# Altium integrated library Linear Technology Power Management uModule Regulators.IntLib: 166 symbols (part 54 of 67)
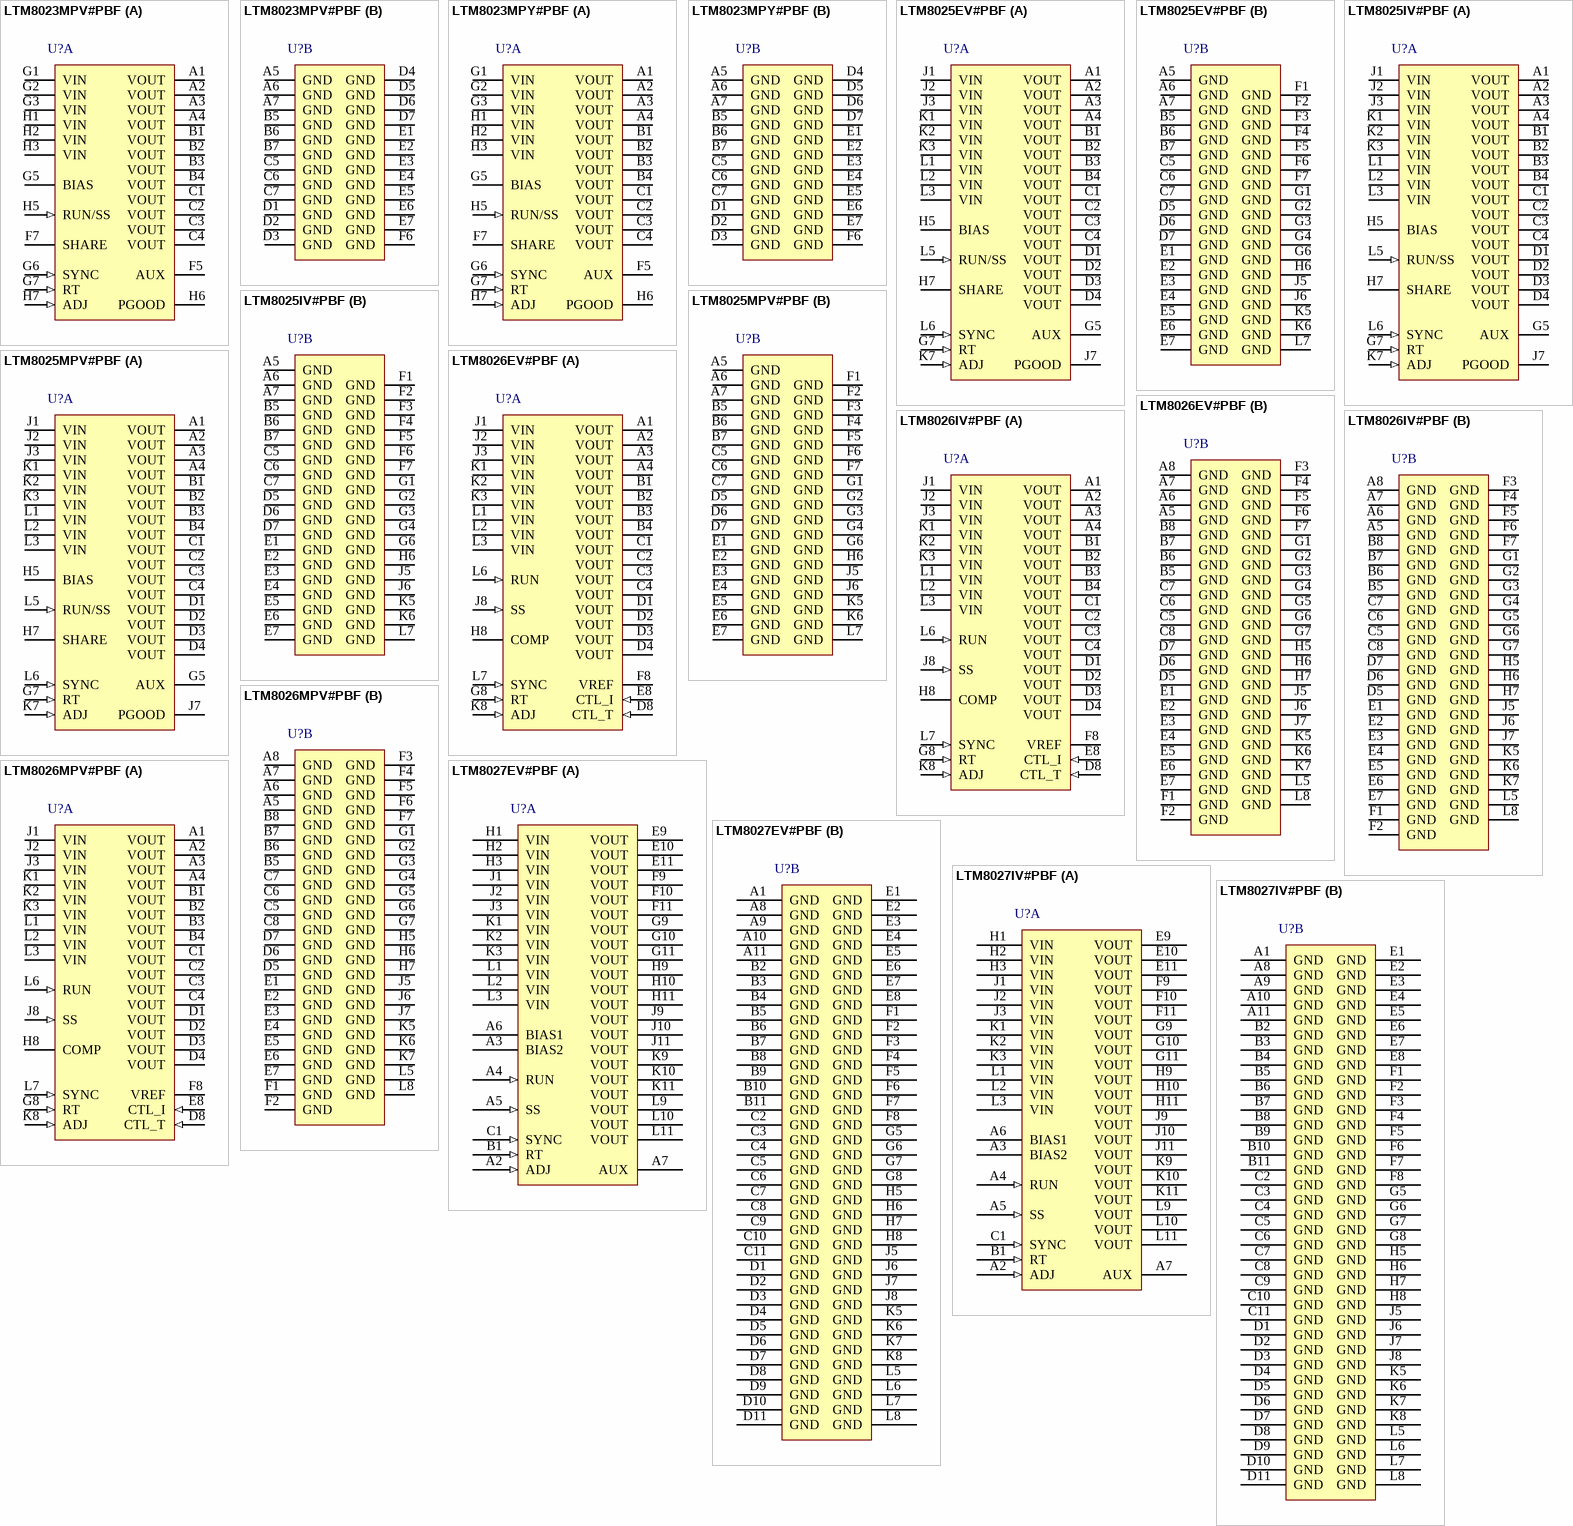
[diagram p80: symbols LTM8023MPV#PBF to LTM8027IV#PBF]

## LTM8027EV#PBF
designator U?
60 V, 4 A DC/DC uModule Regulator, 113-pin LGA, -40 to 125 degC, Pb-Free, Tray; Manufacturer: Linear Technology; PartNumber: LTM8027EV#PBF; Extended Temp: E, I, MP; Frequency Adjust Range: 100kHz - 500kHz; Ishutdown(uA): 9; Isupply(mA): 39; Number of Outputs: 1; Output Current(A): 4; Switch Current(A): 6; Synchronous: yes; Topology: Buck; Vin Max(V): 60; Vin Min(V): 4.5; Vout Max(V): 24; Vout Min(V): 2.5; Vswitch Max(V): 65; DatasheetVersion: Rev. B; PackageVersion: Rev. A, 02/2013; PackageReference: LGA-113; PackageDescription: 113-Pin LGA, Body 15 x 15 mm, Pitch 1.27 mm; Supplier 1: Digi-Key; Supplier Part Number 1: LTM8027EV#PBF-ND; Supplier 2: Farnell; Supplier Part Number 2: 1799829; Supplier 3: Newark; Supplier Part Number 3: 52R9868; Frequency Sync Range: 100kHz - 500kHz; Packing: Tray; RoHS: TRUE; Mounting Technology: Surface Mount; Code_JEDEC: MO-222; ComponentLink1Description: Manufacturer URL; ComponentLink1URL: http://www.linear.com/; ComponentLink2Description: Datasheet; ComponentLink2URL: http://cds.linear.com/docs/en/datasheet/8027fb.pdf; ComponentLink3Description: Package Specification; ComponentLink3URL: http://cds.linear.com/docs/en/packaging/05081756_A_lga113.pdf
footprint LT-LGA-113-15000X15000X4320_V (LGA, 113-Leads, Body 15x15mm, Pitch 1.27mm)
part A pins: A2 ADJ (in) "The LTM8027 regulates its ADJ pin to 1.23V. Connect the adjust resistor from this pin to ground.", A3 BIAS2 (power) "Internal Biasing Power. Connect to AUX (if 24V or less) or a voltage source above 3V. Do not leave BIAS2 floating", A4 RUN (in) "Tie the RUN pin to ground to shut down the LTM8027. Tie to 1.4V or more for normal operation. The RUN pin is internally clamped to 5V, so when it is pulled up, be sure to use a pull-up resistor that limits the current in to (See Datasheet)", A5 SS (in) "The soft-start pin is used to program the supply soft-start function. The pin should be left unconnected when not using the soft-start function.", A6 BIAS1 (power) "The BIAS1 pin connects to the internal power bus. Connect to a power source greater than 8.5V. If the output is greater than 8.5V, connect it to this pin. If the output voltage is less, connect this to a voltage source (See Datasheet)", A7 AUX (power) "Low Current Voltage Source for BIAS1 and BIAS2. In many designs, the BIAS pin is connected to VOUT by way of the AUX pin. The AUX pin is internally connected to VOUT and is placed near the BIAS pins to ease printed circuit (See Datasheet)", B1 RT (in) "The RT pin is used to program the switching frequency of the LTM8027 by connecting a resistor from this pin to ground. The Applications Information section of the data sheet includes a table to determine the resistance value (See Datasheet)", C1 SYNC (in) "The SYNC pin provides an external clock input for synchronization of the internal oscillator. The RT resistor should be set such that the internal oscillator frequency is 10% to 25% below the external clock frequency. This (See Datasheet)", E9 VOUT (power) "Power Output Pins. Apply the output filter capacitor and the output load between these and the GND pins.", E10 VOUT (power) "Power Output Pins. Apply the output filter capacitor and the output load between these and the GND pins.", E11 VOUT (power) "Power Output Pins. Apply the output filter capacitor and the output load between these and the GND pins.", F9 VOUT (power) "Power Output Pins. Apply the output filter capacitor and the output load between these and the GND pins.", F10 VOUT (power) "Power Output Pins. Apply the output filter capacitor and the output load between these and the GND pins.", F11 VOUT (power) "Power Output Pins. Apply the output filter capacitor and the output load between these and the GND pins.", G9 VOUT (power) "Power Output Pins. Apply the output filter capacitor and the output load between these and the GND pins.", G10 VOUT (power) "Power Output Pins. Apply the output filter capacitor and the output load between these and the GND pins.", G11 VOUT (power) "Power Output Pins. Apply the output filter capacitor and the output load between these and the GND pins.", H1 VIN (power) "The VIN pins supply current to the LTM8027’s internal regulator and to the internal power switch. These pins must be locally bypassed with an external, low ESR capacitor (see Table 2).", H2 VIN (power) "The VIN pins supply current to the LTM8027’s internal regulator and to the internal power switch. These pins must be locally bypassed with an external, low ESR capacitor (see Table 2).", H3 VIN (power) "The VIN pins supply current to the LTM8027’s internal regulator and to the internal power switch. These pins must be locally bypassed with an external, low ESR capacitor (see Table 2).", H9 VOUT (power) "Power Output Pins. Apply the output filter capacitor and the output load between these and the GND pins.", H10 VOUT (power) "Power Output Pins. Apply the output filter capacitor and the output load between these and the GND pins.", H11 VOUT (power) "Power Output Pins. Apply the output filter capacitor and the output load between these and the GND pins.", J1 VIN (power) "The VIN pins supply current to the LTM8027’s internal regulator and to the internal power switch. These pins must be locally bypassed with an external, low ESR capacitor (see Table 2).", J2 VIN (power) "The VIN pins supply current to the LTM8027’s internal regulator and to the internal power switch. These pins must be locally bypassed with an external, low ESR capacitor (see Table 2).", J3 VIN (power) "The VIN pins supply current to the LTM8027’s internal regulator and to the internal power switch. These pins must be locally bypassed with an external, low ESR capacitor (see Table 2).", J9 VOUT (power) "Power Output Pins. Apply the output filter capacitor and the output load between these and the GND pins.", J10 VOUT (power) "Power Output Pins. Apply the output filter capacitor and the output load between these and the GND pins.", J11 VOUT (power) "Power Output Pins. Apply the output filter capacitor and the output load between these and the GND pins.", K1 VIN (power) "The VIN pins supply current to the LTM8027’s internal regulator and to the internal power switch. These pins must be locally bypassed with an external, low ESR capacitor (see Table 2).", K2 VIN (power) "The VIN pins supply current to the LTM8027’s internal regulator and to the internal power switch. These pins must be locally bypassed with an external, low ESR capacitor (see Table 2).", K3 VIN (power) "The VIN pins supply current to the LTM8027’s internal regulator and to the internal power switch. These pins must be locally bypassed with an external, low ESR capacitor (see Table 2).", K9 VOUT (power) "Power Output Pins. Apply the output filter capacitor and the output load between these and the GND pins.", K10 VOUT (power) "Power Output Pins. Apply the output filter capacitor and the output load between these and the GND pins.", K11 VOUT (power) "Power Output Pins. Apply the output filter capacitor and the output load between these and the GND pins.", L1 VIN (power) "The VIN pins supply current to the LTM8027’s internal regulator and to the internal power switch. These pins must be locally bypassed with an external, low ESR capacitor (see Table 2).", L2 VIN (power) "The VIN pins supply current to the LTM8027’s internal regulator and to the internal power switch. These pins must be locally bypassed with an external, low ESR capacitor (see Table 2).", L3 VIN (power) "The VIN pins supply current to the LTM8027’s internal regulator and to the internal power switch. These pins must be locally bypassed with an external, low ESR capacitor (see Table 2).", L9 VOUT (power) "Power Output Pins. Apply the output filter capacitor and the output load between these and the GND pins.", L10 VOUT (power) "Power Output Pins. Apply the output filter capacitor and the output load between these and the GND pins.", L11 VOUT (power) "Power Output Pins. Apply the output filter capacitor and the output load between these and the GND pins."
part B pins: A1 GND (power) "Tie these GND pins to a local ground plane below the LTM8027 and the circuit components.", A8 GND (power) "Tie these GND pins to a local ground plane below the LTM8027 and the circuit components.", A9 GND (power) "Tie these GND pins to a local ground plane below the LTM8027 and the circuit components.", A10 GND (power) "Tie these GND pins to a local ground plane below the LTM8027 and the circuit components.", A11 GND (power) "Tie these GND pins to a local ground plane below the LTM8027 and the circuit components.", B2 GND (power) "Tie these GND pins to a local ground plane below the LTM8027 and the circuit components.", B3 GND (power) "Tie these GND pins to a local ground plane below the LTM8027 and the circuit components.", B4 GND (power) "Tie these GND pins to a local ground plane below the LTM8027 and the circuit components.", B5 GND (power) "Tie these GND pins to a local ground plane below the LTM8027 and the circuit components.", B6 GND (power) "Tie these GND pins to a local ground plane below the LTM8027 and the circuit components.", B7 GND (power) "Tie these GND pins to a local ground plane below the LTM8027 and the circuit components.", B8 GND (power) "Tie these GND pins to a local ground plane below the LTM8027 and the circuit components.", B9 GND (power) "Tie these GND pins to a local ground plane below the LTM8027 and the circuit components.", B10 GND (power) "Tie these GND pins to a local ground plane below the LTM8027 and the circuit components.", B11 GND (power) "Tie these GND pins to a local ground plane below the LTM8027 and the circuit components.", C2 GND (power) "Tie these GND pins to a local ground plane below the LTM8027 and the circuit components.", C3 GND (power) "Tie these GND pins to a local ground plane below the LTM8027 and the circuit components.", C4 GND (power) "Tie these GND pins to a local ground plane below the LTM8027 and the circuit components.", C5 GND (power) "Tie these GND pins to a local ground plane below the LTM8027 and the circuit components.", C6 GND (power) "Tie these GND pins to a local ground plane below the LTM8027 and the circuit components.", C7 GND (power) "Tie these GND pins to a local ground plane below the LTM8027 and the circuit components.", C8 GND (power) "Tie these GND pins to a local ground plane below the LTM8027 and the circuit components.", C9 GND (power) "Tie these GND pins to a local ground plane below the LTM8027 and the circuit components.", C10 GND (power) "Tie these GND pins to a local ground plane below the LTM8027 and the circuit components.", C11 GND (power) "Tie these GND pins to a local ground plane below the LTM8027 and the circuit components.", D1 GND (power) "Tie these GND pins to a local ground plane below the LTM8027 and the circuit components.", D2 GND (power) "Tie these GND pins to a local ground plane below the LTM8027 and the circuit components.", D3 GND (power) "Tie these GND pins to a local ground plane below the LTM8027 and the circuit components.", D4 GND (power) "Tie these GND pins to a local ground plane below the LTM8027 and the circuit components.", D5 GND (power) "Tie these GND pins to a local ground plane below the LTM8027 and the circuit components.", D6 GND (power) "Tie these GND pins to a local ground plane below the LTM8027 and the circuit components.", D7 GND (power) "Tie these GND pins to a local ground plane below the LTM8027 and the circuit components.", D8 GND (power) "Tie these GND pins to a local ground plane below the LTM8027 and the circuit components.", D9 GND (power) "Tie these GND pins to a local ground plane below the LTM8027 and the circuit components.", D10 GND (power) "Tie these GND pins to a local ground plane below the LTM8027 and the circuit components.", D11 GND (power) "Tie these GND pins to a local ground plane below the LTM8027 and the circuit components.", E1 GND (power) "Tie these GND pins to a local ground plane below the LTM8027 and the circuit components.", E2 GND (power) "Tie these GND pins to a local ground plane below the LTM8027 and the circuit components.", E3 GND (power) "Tie these GND pins to a local ground plane below the LTM8027 and the circuit components.", E4 GND (power) "Tie these GND pins to a local ground plane below the LTM8027 and the circuit components.", E5 GND (power) "Tie these GND pins to a local ground plane below the LTM8027 and the circuit components.", E6 GND (power) "Tie these GND pins to a local ground plane below the LTM8027 and the circuit components.", E7 GND (power) "Tie these GND pins to a local ground plane below the LTM8027 and the circuit components.", E8 GND (power) "Tie these GND pins to a local ground plane below the LTM8027 and the circuit components.", F1 GND (power) "Tie these GND pins to a local ground plane below the LTM8027 and the circuit components.", F2 GND (power) "Tie these GND pins to a local ground plane below the LTM8027 and the circuit components.", F3 GND (power) "Tie these GND pins to a local ground plane below the LTM8027 and the circuit components.", F4 GND (power) "Tie these GND pins to a local ground plane below the LTM8027 and the circuit components.", F5 GND (power) "Tie these GND pins to a local ground plane below the LTM8027 and the circuit components.", F6 GND (power) "Tie these GND pins to a local ground plane below the LTM8027 and the circuit components.", F7 GND (power) "Tie these GND pins to a local ground plane below the LTM8027 and the circuit components.", F8 GND (power) "Tie these GND pins to a local ground plane below the LTM8027 and the circuit components.", G5 GND (power) "Tie these GND pins to a local ground plane below the LTM8027 and the circuit components.", G6 GND (power) "Tie these GND pins to a local ground plane below the LTM8027 and the circuit components.", G7 GND (power) "Tie these GND pins to a local ground plane below the LTM8027 and the circuit components.", G8 GND (power) "Tie these GND pins to a local ground plane below the LTM8027 and the circuit components.", H5 GND (power) "Tie these GND pins to a local ground plane below the LTM8027 and the circuit components.", H6 GND (power) "Tie these GND pins to a local ground plane below the LTM8027 and the circuit components.", H7 GND (power) "Tie these GND pins to a local ground plane below the LTM8027 and the circuit components.", H8 GND (power) "Tie these GND pins to a local ground plane below the LTM8027 and the circuit components.", J5 GND (power) "Tie these GND pins to a local ground plane below the LTM8027 and the circuit components.", J6 GND (power) "Tie these GND pins to a local ground plane below the LTM8027 and the circuit components.", J7 GND (power) "Tie these GND pins to a local ground plane below the LTM8027 and the circuit components.", J8 GND (power) "Tie these GND pins to a local ground plane below the LTM8027 and the circuit components.", K5 GND (power) "Tie these GND pins to a local ground plane below the LTM8027 and the circuit components.", K6 GND (power) "Tie these GND pins to a local ground plane below the LTM8027 and the circuit components.", K7 GND (power) "Tie these GND pins to a local ground plane below the LTM8027 and the circuit components.", K8 GND (power) "Tie these GND pins to a local ground plane below the LTM8027 and the circuit components.", L5 GND (power) "Tie these GND pins to a local ground plane below the LTM8027 and the circuit components.", L6 GND (power) "Tie these GND pins to a local ground plane below the LTM8027 and the circuit components.", L7 GND (power) "Tie these GND pins to a local ground plane below the LTM8027 and the circuit components.", L8 GND (power) "Tie these GND pins to a local ground plane below the LTM8027 and the circuit components."

## LTM8027IV#PBF
designator U?
60 V, 4 A DC/DC uModule Regulator, 113-pin LGA, -40 to 125 degC, Pb-Free, Tray; Manufacturer: Linear Technology; PartNumber: LTM8027IV#PBF; Extended Temp: E, I, MP; Frequency Adjust Range: 100kHz - 500kHz; Ishutdown(uA): 9; Isupply(mA): 39; Number of Outputs: 1; Output Current(A): 4; Switch Current(A): 6; Synchronous: yes; Topology: Buck; Vin Max(V): 60; Vin Min(V): 4.5; Vout Max(V): 24; Vout Min(V): 2.5; Vswitch Max(V): 65; DatasheetVersion: Rev. B; PackageVersion: Rev. A, 02/2013; PackageReference: LGA-113; PackageDescription: 113-Pin LGA, Body 15 x 15 mm, Pitch 1.27 mm; Supplier 1: Digi-Key; Supplier Part Number 1: LTM8027IV#PBF-ND; Supplier 2: Farnell; Supplier Part Number 2: 1799830; Supplier 3: Newark; Supplier Part Number 3: 52R9869; Frequency Sync Range: 100kHz - 500kHz; Packing: Tray; RoHS: TRUE; Mounting Technology: Surface Mount; Code_JEDEC: MO-222; ComponentLink1Description: Manufacturer URL; ComponentLink1URL: http://www.linear.com/; ComponentLink2Description: Datasheet; ComponentLink2URL: http://cds.linear.com/docs/en/datasheet/8027fb.pdf; ComponentLink3Description: Package Specification; ComponentLink3URL: http://cds.linear.com/docs/en/packaging/05081756_A_lga113.pdf
footprint LT-LGA-113-15000X15000X4320_V (LGA, 113-Leads, Body 15x15mm, Pitch 1.27mm)
part A pins: A2 ADJ (in) "The LTM8027 regulates its ADJ pin to 1.23V. Connect the adjust resistor from this pin to ground.", A3 BIAS2 (power) "Internal Biasing Power. Connect to AUX (if 24V or less) or a voltage source above 3V. Do not leave BIAS2 floating", A4 RUN (in) "Tie the RUN pin to ground to shut down the LTM8027. Tie to 1.4V or more for normal operation. The RUN pin is internally clamped to 5V, so when it is pulled up, be sure to use a pull-up resistor that limits the current in to (See Datasheet)", A5 SS (in) "The soft-start pin is used to program the supply soft-start function. The pin should be left unconnected when not using the soft-start function.", A6 BIAS1 (power) "The BIAS1 pin connects to the internal power bus. Connect to a power source greater than 8.5V. If the output is greater than 8.5V, connect it to this pin. If the output voltage is less, connect this to a voltage source (See Datasheet)", A7 AUX (power) "Low Current Voltage Source for BIAS1 and BIAS2. In many designs, the BIAS pin is connected to VOUT by way of the AUX pin. The AUX pin is internally connected to VOUT and is placed near the BIAS pins to ease printed circuit (See Datasheet)", B1 RT (in) "The RT pin is used to program the switching frequency of the LTM8027 by connecting a resistor from this pin to ground. The Applications Information section of the data sheet includes a table to determine the resistance value (See Datasheet)", C1 SYNC (in) "The SYNC pin provides an external clock input for synchronization of the internal oscillator. The RT resistor should be set such that the internal oscillator frequency is 10% to 25% below the external clock frequency. This (See Datasheet)", E9 VOUT (power) "Power Output Pins. Apply the output filter capacitor and the output load between these and the GND pins.", E10 VOUT (power) "Power Output Pins. Apply the output filter capacitor and the output load between these and the GND pins.", E11 VOUT (power) "Power Output Pins. Apply the output filter capacitor and the output load between these and the GND pins.", F9 VOUT (power) "Power Output Pins. Apply the output filter capacitor and the output load between these and the GND pins.", F10 VOUT (power) "Power Output Pins. Apply the output filter capacitor and the output load between these and the GND pins.", F11 VOUT (power) "Power Output Pins. Apply the output filter capacitor and the output load between these and the GND pins.", G9 VOUT (power) "Power Output Pins. Apply the output filter capacitor and the output load between these and the GND pins.", G10 VOUT (power) "Power Output Pins. Apply the output filter capacitor and the output load between these and the GND pins.", G11 VOUT (power) "Power Output Pins. Apply the output filter capacitor and the output load between these and the GND pins.", H1 VIN (power) "The VIN pins supply current to the LTM8027’s internal regulator and to the internal power switch. These pins must be locally bypassed with an external, low ESR capacitor (see Table 2).", H2 VIN (power) "The VIN pins supply current to the LTM8027’s internal regulator and to the internal power switch. These pins must be locally bypassed with an external, low ESR capacitor (see Table 2).", H3 VIN (power) "The VIN pins supply current to the LTM8027’s internal regulator and to the internal power switch. These pins must be locally bypassed with an external, low ESR capacitor (see Table 2).", H9 VOUT (power) "Power Output Pins. Apply the output filter capacitor and the output load between these and the GND pins.", H10 VOUT (power) "Power Output Pins. Apply the output filter capacitor and the output load between these and the GND pins.", H11 VOUT (power) "Power Output Pins. Apply the output filter capacitor and the output load between these and the GND pins.", J1 VIN (power) "The VIN pins supply current to the LTM8027’s internal regulator and to the internal power switch. These pins must be locally bypassed with an external, low ESR capacitor (see Table 2).", J2 VIN (power) "The VIN pins supply current to the LTM8027’s internal regulator and to the internal power switch. These pins must be locally bypassed with an external, low ESR capacitor (see Table 2).", J3 VIN (power) "The VIN pins supply current to the LTM8027’s internal regulator and to the internal power switch. These pins must be locally bypassed with an external, low ESR capacitor (see Table 2).", J9 VOUT (power) "Power Output Pins. Apply the output filter capacitor and the output load between these and the GND pins.", J10 VOUT (power) "Power Output Pins. Apply the output filter capacitor and the output load between these and the GND pins.", J11 VOUT (power) "Power Output Pins. Apply the output filter capacitor and the output load between these and the GND pins.", K1 VIN (power) "The VIN pins supply current to the LTM8027’s internal regulator and to the internal power switch. These pins must be locally bypassed with an external, low ESR capacitor (see Table 2).", K2 VIN (power) "The VIN pins supply current to the LTM8027’s internal regulator and to the internal power switch. These pins must be locally bypassed with an external, low ESR capacitor (see Table 2).", K3 VIN (power) "The VIN pins supply current to the LTM8027’s internal regulator and to the internal power switch. These pins must be locally bypassed with an external, low ESR capacitor (see Table 2).", K9 VOUT (power) "Power Output Pins. Apply the output filter capacitor and the output load between these and the GND pins.", K10 VOUT (power) "Power Output Pins. Apply the output filter capacitor and the output load between these and the GND pins.", K11 VOUT (power) "Power Output Pins. Apply the output filter capacitor and the output load between these and the GND pins.", L1 VIN (power) "The VIN pins supply current to the LTM8027’s internal regulator and to the internal power switch. These pins must be locally bypassed with an external, low ESR capacitor (see Table 2).", L2 VIN (power) "The VIN pins supply current to the LTM8027’s internal regulator and to the internal power switch. These pins must be locally bypassed with an external, low ESR capacitor (see Table 2).", L3 VIN (power) "The VIN pins supply current to the LTM8027’s internal regulator and to the internal power switch. These pins must be locally bypassed with an external, low ESR capacitor (see Table 2).", L9 VOUT (power) "Power Output Pins. Apply the output filter capacitor and the output load between these and the GND pins.", L10 VOUT (power) "Power Output Pins. Apply the output filter capacitor and the output load between these and the GND pins.", L11 VOUT (power) "Power Output Pins. Apply the output filter capacitor and the output load between these and the GND pins."
part B pins: A1 GND (power) "Tie these GND pins to a local ground plane below the LTM8027 and the circuit components.", A8 GND (power) "Tie these GND pins to a local ground plane below the LTM8027 and the circuit components.", A9 GND (power) "Tie these GND pins to a local ground plane below the LTM8027 and the circuit components.", A10 GND (power) "Tie these GND pins to a local ground plane below the LTM8027 and the circuit components.", A11 GND (power) "Tie these GND pins to a local ground plane below the LTM8027 and the circuit components.", B2 GND (power) "Tie these GND pins to a local ground plane below the LTM8027 and the circuit components.", B3 GND (power) "Tie these GND pins to a local ground plane below the LTM8027 and the circuit components.", B4 GND (power) "Tie these GND pins to a local ground plane below the LTM8027 and the circuit components.", B5 GND (power) "Tie these GND pins to a local ground plane below the LTM8027 and the circuit components.", B6 GND (power) "Tie these GND pins to a local ground plane below the LTM8027 and the circuit components.", B7 GND (power) "Tie these GND pins to a local ground plane below the LTM8027 and the circuit components.", B8 GND (power) "Tie these GND pins to a local ground plane below the LTM8027 and the circuit components.", B9 GND (power) "Tie these GND pins to a local ground plane below the LTM8027 and the circuit components.", B10 GND (power) "Tie these GND pins to a local ground plane below the LTM8027 and the circuit components.", B11 GND (power) "Tie these GND pins to a local ground plane below the LTM8027 and the circuit components.", C2 GND (power) "Tie these GND pins to a local ground plane below the LTM8027 and the circuit components.", C3 GND (power) "Tie these GND pins to a local ground plane below the LTM8027 and the circuit components.", C4 GND (power) "Tie these GND pins to a local ground plane below the LTM8027 and the circuit components.", C5 GND (power) "Tie these GND pins to a local ground plane below the LTM8027 and the circuit components.", C6 GND (power) "Tie these GND pins to a local ground plane below the LTM8027 and the circuit components.", C7 GND (power) "Tie these GND pins to a local ground plane below the LTM8027 and the circuit components.", C8 GND (power) "Tie these GND pins to a local ground plane below the LTM8027 and the circuit components.", C9 GND (power) "Tie these GND pins to a local ground plane below the LTM8027 and the circuit components.", C10 GND (power) "Tie these GND pins to a local ground plane below the LTM8027 and the circuit components.", C11 GND (power) "Tie these GND pins to a local ground plane below the LTM8027 and the circuit components.", D1 GND (power) "Tie these GND pins to a local ground plane below the LTM8027 and the circuit components.", D2 GND (power) "Tie these GND pins to a local ground plane below the LTM8027 and the circuit components.", D3 GND (power) "Tie these GND pins to a local ground plane below the LTM8027 and the circuit components.", D4 GND (power) "Tie these GND pins to a local ground plane below the LTM8027 and the circuit components.", D5 GND (power) "Tie these GND pins to a local ground plane below the LTM8027 and the circuit components.", D6 GND (power) "Tie these GND pins to a local ground plane below the LTM8027 and the circuit components.", D7 GND (power) "Tie these GND pins to a local ground plane below the LTM8027 and the circuit components.", D8 GND (power) "Tie these GND pins to a local ground plane below the LTM8027 and the circuit components.", D9 GND (power) "Tie these GND pins to a local ground plane below the LTM8027 and the circuit components.", D10 GND (power) "Tie these GND pins to a local ground plane below the LTM8027 and the circuit components.", D11 GND (power) "Tie these GND pins to a local ground plane below the LTM8027 and the circuit components.", E1 GND (power) "Tie these GND pins to a local ground plane below the LTM8027 and the circuit components.", E2 GND (power) "Tie these GND pins to a local ground plane below the LTM8027 and the circuit components.", E3 GND (power) "Tie these GND pins to a local ground plane below the LTM8027 and the circuit components.", E4 GND (power) "Tie these GND pins to a local ground plane below the LTM8027 and the circuit components.", E5 GND (power) "Tie these GND pins to a local ground plane below the LTM8027 and the circuit components.", E6 GND (power) "Tie these GND pins to a local ground plane below the LTM8027 and the circuit components.", E7 GND (power) "Tie these GND pins to a local ground plane below the LTM8027 and the circuit components.", E8 GND (power) "Tie these GND pins to a local ground plane below the LTM8027 and the circuit components.", F1 GND (power) "Tie these GND pins to a local ground plane below the LTM8027 and the circuit components.", F2 GND (power) "Tie these GND pins to a local ground plane below the LTM8027 and the circuit components.", F3 GND (power) "Tie these GND pins to a local ground plane below the LTM8027 and the circuit components.", F4 GND (power) "Tie these GND pins to a local ground plane below the LTM8027 and the circuit components.", F5 GND (power) "Tie these GND pins to a local ground plane below the LTM8027 and the circuit components.", F6 GND (power) "Tie these GND pins to a local ground plane below the LTM8027 and the circuit components.", F7 GND (power) "Tie these GND pins to a local ground plane below the LTM8027 and the circuit components.", F8 GND (power) "Tie these GND pins to a local ground plane below the LTM8027 and the circuit components.", G5 GND (power) "Tie these GND pins to a local ground plane below the LTM8027 and the circuit components.", G6 GND (power) "Tie these GND pins to a local ground plane below the LTM8027 and the circuit components.", G7 GND (power) "Tie these GND pins to a local ground plane below the LTM8027 and the circuit components.", G8 GND (power) "Tie these GND pins to a local ground plane below the LTM8027 and the circuit components.", H5 GND (power) "Tie these GND pins to a local ground plane below the LTM8027 and the circuit components.", H6 GND (power) "Tie these GND pins to a local ground plane below the LTM8027 and the circuit components.", H7 GND (power) "Tie these GND pins to a local ground plane below the LTM8027 and the circuit components.", H8 GND (power) "Tie these GND pins to a local ground plane below the LTM8027 and the circuit components.", J5 GND (power) "Tie these GND pins to a local ground plane below the LTM8027 and the circuit components.", J6 GND (power) "Tie these GND pins to a local ground plane below the LTM8027 and the circuit components.", J7 GND (power) "Tie these GND pins to a local ground plane below the LTM8027 and the circuit components.", J8 GND (power) "Tie these GND pins to a local ground plane below the LTM8027 and the circuit components.", K5 GND (power) "Tie these GND pins to a local ground plane below the LTM8027 and the circuit components.", K6 GND (power) "Tie these GND pins to a local ground plane below the LTM8027 and the circuit components.", K7 GND (power) "Tie these GND pins to a local ground plane below the LTM8027 and the circuit components.", K8 GND (power) "Tie these GND pins to a local ground plane below the LTM8027 and the circuit components.", L5 GND (power) "Tie these GND pins to a local ground plane below the LTM8027 and the circuit components.", L6 GND (power) "Tie these GND pins to a local ground plane below the LTM8027 and the circuit components.", L7 GND (power) "Tie these GND pins to a local ground plane below the LTM8027 and the circuit components.", L8 GND (power) "Tie these GND pins to a local ground plane below the LTM8027 and the circuit components."

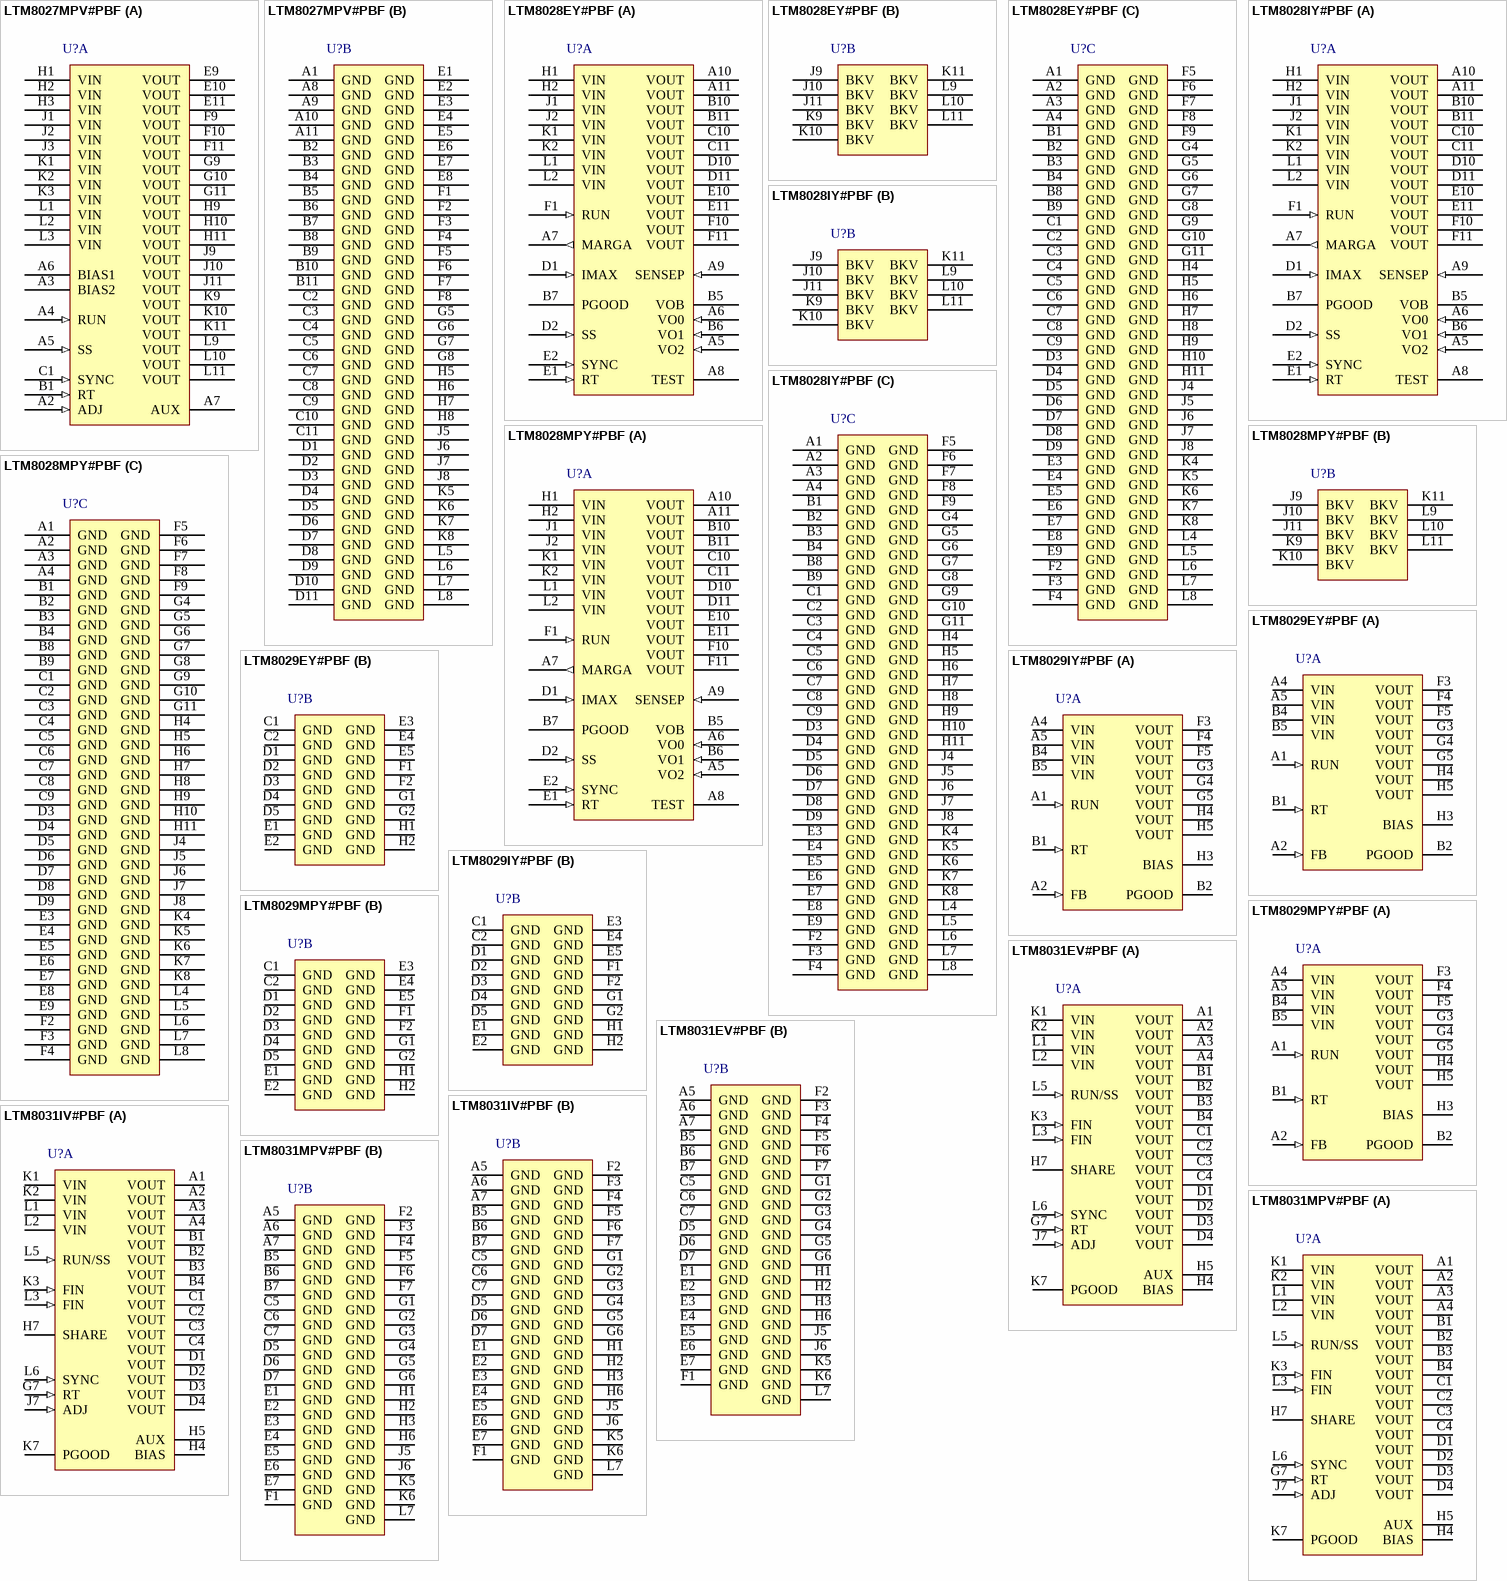
[diagram p23: symbols LTM8027MPV#PBF to LTM8031MPV#PBF]

## LTM8027MPV#PBF
designator U?
60 V, 4 A DC/DC uModule Regulator, 113-pin LGA, -55 to 125 degC, Pb-Free, Tray; Manufacturer: Linear Technology; PartNumber: LTM8027MPV#PBF; Extended Temp: E, I, MP; Frequency Adjust Range: 100kHz - 500kHz; Ishutdown(uA): 9; Isupply(mA): 39; Number of Outputs: 1; Output Current(A): 4; Switch Current(A): 6; Synchronous: yes; Topology: Buck; Vin Max(V): 60; Vin Min(V): 4.5; Vout Max(V): 24; Vout Min(V): 2.5; Vswitch Max(V): 65; DatasheetVersion: Rev. B; PackageVersion: Rev. A, 02/2013; PackageReference: LGA-113; PackageDescription: 113-Pin LGA, Body 15 x 15 mm, Pitch 1.27 mm; Supplier 1: Digi-Key; Supplier Part Number 1: LTM8027MPV#PBF-ND; Supplier 2: Farnell; Supplier Part Number 2: 1799831; Supplier 3: Newark; Supplier Part Number 3: 52R9870; Frequency Sync Range: 100kHz - 500kHz; Packing: Tray; RoHS: TRUE; Mounting Technology: Surface Mount; Code_JEDEC: MO-222; ComponentLink1Description: Manufacturer URL; ComponentLink1URL: http://www.linear.com/; ComponentLink2Description: Datasheet; ComponentLink2URL: http://cds.linear.com/docs/en/datasheet/8027fb.pdf; ComponentLink3Description: Package Specification; ComponentLink3URL: http://cds.linear.com/docs/en/packaging/05081756_A_lga113.pdf
footprint LT-LGA-113-15000X15000X4320_V (LGA, 113-Leads, Body 15x15mm, Pitch 1.27mm)
part A pins: A2 ADJ (in) "The LTM8027 regulates its ADJ pin to 1.23V. Connect the adjust resistor from this pin to ground.", A3 BIAS2 (power) "Internal Biasing Power. Connect to AUX (if 24V or less) or a voltage source above 3V. Do not leave BIAS2 floating", A4 RUN (in) "Tie the RUN pin to ground to shut down the LTM8027. Tie to 1.4V or more for normal operation. The RUN pin is internally clamped to 5V, so when it is pulled up, be sure to use a pull-up resistor that limits the current in to (See Datasheet)", A5 SS (in) "The soft-start pin is used to program the supply soft-start function. The pin should be left unconnected when not using the soft-start function.", A6 BIAS1 (power) "The BIAS1 pin connects to the internal power bus. Connect to a power source greater than 8.5V. If the output is greater than 8.5V, connect it to this pin. If the output voltage is less, connect this to a voltage source (See Datasheet)", A7 AUX (power) "Low Current Voltage Source for BIAS1 and BIAS2. In many designs, the BIAS pin is connected to VOUT by way of the AUX pin. The AUX pin is internally connected to VOUT and is placed near the BIAS pins to ease printed circuit (See Datasheet)", B1 RT (in) "The RT pin is used to program the switching frequency of the LTM8027 by connecting a resistor from this pin to ground. The Applications Information section of the data sheet includes a table to determine the resistance value (See Datasheet)", C1 SYNC (in) "The SYNC pin provides an external clock input for synchronization of the internal oscillator. The RT resistor should be set such that the internal oscillator frequency is 10% to 25% below the external clock frequency. This (See Datasheet)", E9 VOUT (power) "Power Output Pins. Apply the output filter capacitor and the output load between these and the GND pins.", E10 VOUT (power) "Power Output Pins. Apply the output filter capacitor and the output load between these and the GND pins.", E11 VOUT (power) "Power Output Pins. Apply the output filter capacitor and the output load between these and the GND pins.", F9 VOUT (power) "Power Output Pins. Apply the output filter capacitor and the output load between these and the GND pins.", F10 VOUT (power) "Power Output Pins. Apply the output filter capacitor and the output load between these and the GND pins.", F11 VOUT (power) "Power Output Pins. Apply the output filter capacitor and the output load between these and the GND pins.", G9 VOUT (power) "Power Output Pins. Apply the output filter capacitor and the output load between these and the GND pins.", G10 VOUT (power) "Power Output Pins. Apply the output filter capacitor and the output load between these and the GND pins.", G11 VOUT (power) "Power Output Pins. Apply the output filter capacitor and the output load between these and the GND pins.", H1 VIN (power) "The VIN pins supply current to the LTM8027’s internal regulator and to the internal power switch. These pins must be locally bypassed with an external, low ESR capacitor (see Table 2).", H2 VIN (power) "The VIN pins supply current to the LTM8027’s internal regulator and to the internal power switch. These pins must be locally bypassed with an external, low ESR capacitor (see Table 2).", H3 VIN (power) "The VIN pins supply current to the LTM8027’s internal regulator and to the internal power switch. These pins must be locally bypassed with an external, low ESR capacitor (see Table 2).", H9 VOUT (power) "Power Output Pins. Apply the output filter capacitor and the output load between these and the GND pins.", H10 VOUT (power) "Power Output Pins. Apply the output filter capacitor and the output load between these and the GND pins.", H11 VOUT (power) "Power Output Pins. Apply the output filter capacitor and the output load between these and the GND pins.", J1 VIN (power) "The VIN pins supply current to the LTM8027’s internal regulator and to the internal power switch. These pins must be locally bypassed with an external, low ESR capacitor (see Table 2).", J2 VIN (power) "The VIN pins supply current to the LTM8027’s internal regulator and to the internal power switch. These pins must be locally bypassed with an external, low ESR capacitor (see Table 2).", J3 VIN (power) "The VIN pins supply current to the LTM8027’s internal regulator and to the internal power switch. These pins must be locally bypassed with an external, low ESR capacitor (see Table 2).", J9 VOUT (power) "Power Output Pins. Apply the output filter capacitor and the output load between these and the GND pins.", J10 VOUT (power) "Power Output Pins. Apply the output filter capacitor and the output load between these and the GND pins.", J11 VOUT (power) "Power Output Pins. Apply the output filter capacitor and the output load between these and the GND pins.", K1 VIN (power) "The VIN pins supply current to the LTM8027’s internal regulator and to the internal power switch. These pins must be locally bypassed with an external, low ESR capacitor (see Table 2).", K2 VIN (power) "The VIN pins supply current to the LTM8027’s internal regulator and to the internal power switch. These pins must be locally bypassed with an external, low ESR capacitor (see Table 2).", K3 VIN (power) "The VIN pins supply current to the LTM8027’s internal regulator and to the internal power switch. These pins must be locally bypassed with an external, low ESR capacitor (see Table 2).", K9 VOUT (power) "Power Output Pins. Apply the output filter capacitor and the output load between these and the GND pins.", K10 VOUT (power) "Power Output Pins. Apply the output filter capacitor and the output load between these and the GND pins.", K11 VOUT (power) "Power Output Pins. Apply the output filter capacitor and the output load between these and the GND pins.", L1 VIN (power) "The VIN pins supply current to the LTM8027’s internal regulator and to the internal power switch. These pins must be locally bypassed with an external, low ESR capacitor (see Table 2).", L2 VIN (power) "The VIN pins supply current to the LTM8027’s internal regulator and to the internal power switch. These pins must be locally bypassed with an external, low ESR capacitor (see Table 2).", L3 VIN (power) "The VIN pins supply current to the LTM8027’s internal regulator and to the internal power switch. These pins must be locally bypassed with an external, low ESR capacitor (see Table 2).", L9 VOUT (power) "Power Output Pins. Apply the output filter capacitor and the output load between these and the GND pins.", L10 VOUT (power) "Power Output Pins. Apply the output filter capacitor and the output load between these and the GND pins.", L11 VOUT (power) "Power Output Pins. Apply the output filter capacitor and the output load between these and the GND pins."
part B pins: A1 GND (power) "Tie these GND pins to a local ground plane below the LTM8027 and the circuit components.", A8 GND (power) "Tie these GND pins to a local ground plane below the LTM8027 and the circuit components.", A9 GND (power) "Tie these GND pins to a local ground plane below the LTM8027 and the circuit components.", A10 GND (power) "Tie these GND pins to a local ground plane below the LTM8027 and the circuit components.", A11 GND (power) "Tie these GND pins to a local ground plane below the LTM8027 and the circuit components.", B2 GND (power) "Tie these GND pins to a local ground plane below the LTM8027 and the circuit components.", B3 GND (power) "Tie these GND pins to a local ground plane below the LTM8027 and the circuit components.", B4 GND (power) "Tie these GND pins to a local ground plane below the LTM8027 and the circuit components.", B5 GND (power) "Tie these GND pins to a local ground plane below the LTM8027 and the circuit components.", B6 GND (power) "Tie these GND pins to a local ground plane below the LTM8027 and the circuit components.", B7 GND (power) "Tie these GND pins to a local ground plane below the LTM8027 and the circuit components.", B8 GND (power) "Tie these GND pins to a local ground plane below the LTM8027 and the circuit components.", B9 GND (power) "Tie these GND pins to a local ground plane below the LTM8027 and the circuit components.", B10 GND (power) "Tie these GND pins to a local ground plane below the LTM8027 and the circuit components.", B11 GND (power) "Tie these GND pins to a local ground plane below the LTM8027 and the circuit components.", C2 GND (power) "Tie these GND pins to a local ground plane below the LTM8027 and the circuit components.", C3 GND (power) "Tie these GND pins to a local ground plane below the LTM8027 and the circuit components.", C4 GND (power) "Tie these GND pins to a local ground plane below the LTM8027 and the circuit components.", C5 GND (power) "Tie these GND pins to a local ground plane below the LTM8027 and the circuit components.", C6 GND (power) "Tie these GND pins to a local ground plane below the LTM8027 and the circuit components.", C7 GND (power) "Tie these GND pins to a local ground plane below the LTM8027 and the circuit components.", C8 GND (power) "Tie these GND pins to a local ground plane below the LTM8027 and the circuit components.", C9 GND (power) "Tie these GND pins to a local ground plane below the LTM8027 and the circuit components.", C10 GND (power) "Tie these GND pins to a local ground plane below the LTM8027 and the circuit components.", C11 GND (power) "Tie these GND pins to a local ground plane below the LTM8027 and the circuit components.", D1 GND (power) "Tie these GND pins to a local ground plane below the LTM8027 and the circuit components.", D2 GND (power) "Tie these GND pins to a local ground plane below the LTM8027 and the circuit components.", D3 GND (power) "Tie these GND pins to a local ground plane below the LTM8027 and the circuit components.", D4 GND (power) "Tie these GND pins to a local ground plane below the LTM8027 and the circuit components.", D5 GND (power) "Tie these GND pins to a local ground plane below the LTM8027 and the circuit components.", D6 GND (power) "Tie these GND pins to a local ground plane below the LTM8027 and the circuit components.", D7 GND (power) "Tie these GND pins to a local ground plane below the LTM8027 and the circuit components.", D8 GND (power) "Tie these GND pins to a local ground plane below the LTM8027 and the circuit components.", D9 GND (power) "Tie these GND pins to a local ground plane below the LTM8027 and the circuit components.", D10 GND (power) "Tie these GND pins to a local ground plane below the LTM8027 and the circuit components.", D11 GND (power) "Tie these GND pins to a local ground plane below the LTM8027 and the circuit components.", E1 GND (power) "Tie these GND pins to a local ground plane below the LTM8027 and the circuit components.", E2 GND (power) "Tie these GND pins to a local ground plane below the LTM8027 and the circuit components.", E3 GND (power) "Tie these GND pins to a local ground plane below the LTM8027 and the circuit components.", E4 GND (power) "Tie these GND pins to a local ground plane below the LTM8027 and the circuit components.", E5 GND (power) "Tie these GND pins to a local ground plane below the LTM8027 and the circuit components.", E6 GND (power) "Tie these GND pins to a local ground plane below the LTM8027 and the circuit components.", E7 GND (power) "Tie these GND pins to a local ground plane below the LTM8027 and the circuit components.", E8 GND (power) "Tie these GND pins to a local ground plane below the LTM8027 and the circuit components.", F1 GND (power) "Tie these GND pins to a local ground plane below the LTM8027 and the circuit components.", F2 GND (power) "Tie these GND pins to a local ground plane below the LTM8027 and the circuit components.", F3 GND (power) "Tie these GND pins to a local ground plane below the LTM8027 and the circuit components.", F4 GND (power) "Tie these GND pins to a local ground plane below the LTM8027 and the circuit components.", F5 GND (power) "Tie these GND pins to a local ground plane below the LTM8027 and the circuit components.", F6 GND (power) "Tie these GND pins to a local ground plane below the LTM8027 and the circuit components.", F7 GND (power) "Tie these GND pins to a local ground plane below the LTM8027 and the circuit components.", F8 GND (power) "Tie these GND pins to a local ground plane below the LTM8027 and the circuit components.", G5 GND (power) "Tie these GND pins to a local ground plane below the LTM8027 and the circuit components.", G6 GND (power) "Tie these GND pins to a local ground plane below the LTM8027 and the circuit components.", G7 GND (power) "Tie these GND pins to a local ground plane below the LTM8027 and the circuit components.", G8 GND (power) "Tie these GND pins to a local ground plane below the LTM8027 and the circuit components.", H5 GND (power) "Tie these GND pins to a local ground plane below the LTM8027 and the circuit components.", H6 GND (power) "Tie these GND pins to a local ground plane below the LTM8027 and the circuit components.", H7 GND (power) "Tie these GND pins to a local ground plane below the LTM8027 and the circuit components.", H8 GND (power) "Tie these GND pins to a local ground plane below the LTM8027 and the circuit components.", J5 GND (power) "Tie these GND pins to a local ground plane below the LTM8027 and the circuit components.", J6 GND (power) "Tie these GND pins to a local ground plane below the LTM8027 and the circuit components.", J7 GND (power) "Tie these GND pins to a local ground plane below the LTM8027 and the circuit components.", J8 GND (power) "Tie these GND pins to a local ground plane below the LTM8027 and the circuit components.", K5 GND (power) "Tie these GND pins to a local ground plane below the LTM8027 and the circuit components.", K6 GND (power) "Tie these GND pins to a local ground plane below the LTM8027 and the circuit components.", K7 GND (power) "Tie these GND pins to a local ground plane below the LTM8027 and the circuit components.", K8 GND (power) "Tie these GND pins to a local ground plane below the LTM8027 and the circuit components.", L5 GND (power) "Tie these GND pins to a local ground plane below the LTM8027 and the circuit components.", L6 GND (power) "Tie these GND pins to a local ground plane below the LTM8027 and the circuit components.", L7 GND (power) "Tie these GND pins to a local ground plane below the LTM8027 and the circuit components.", L8 GND (power) "Tie these GND pins to a local ground plane below the LTM8027 and the circuit components."